# Altium schematic symbol library SamacSys.SchLib: 94 symbols
Pins are listed as number, name and electrical type; pins without a type are passive.

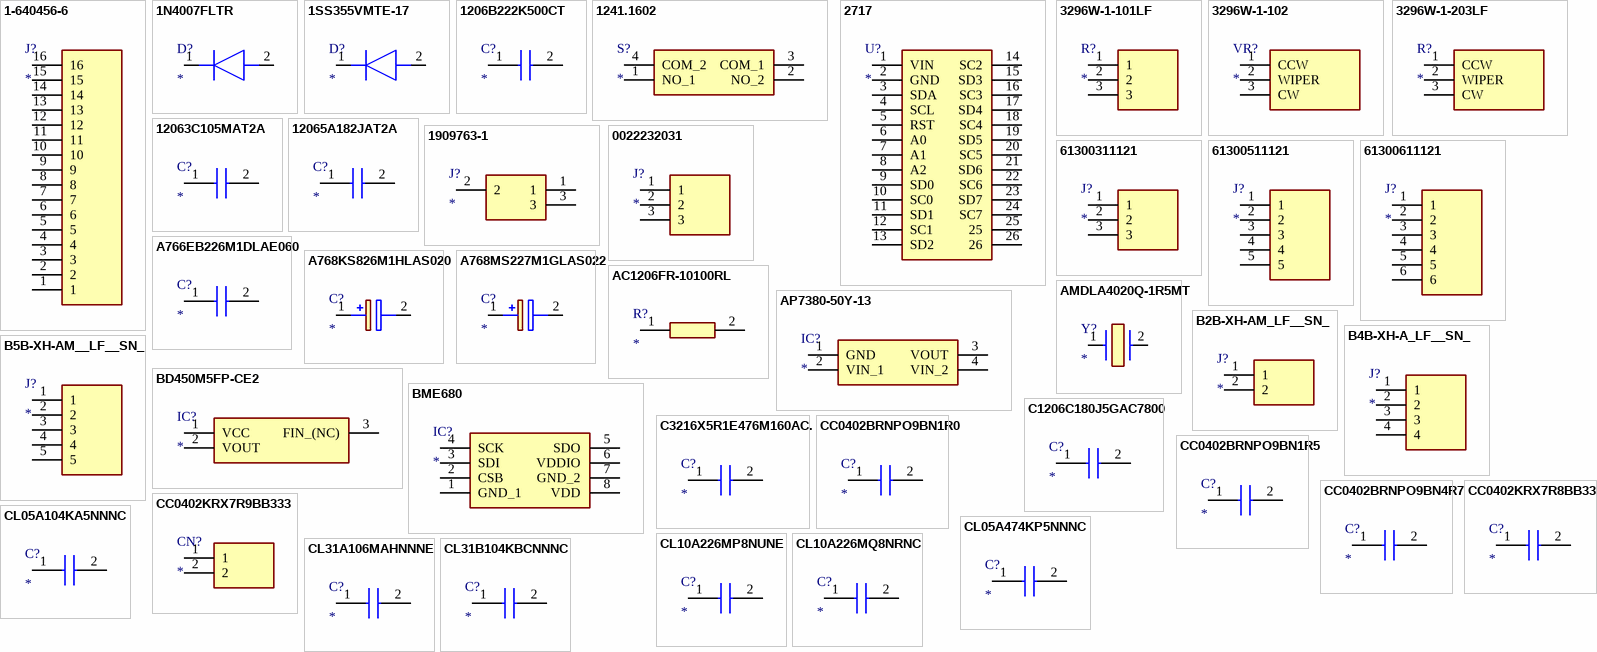
[diagram p0: symbols 1-640456-6 to CL31B104KBCNNNC]

## 1-640456-6
designator J?
Connector; Manufacturer_Name: TE Connectivity; Manufacturer_Part_Number: 1-640456-6; Datasheet Link: https://www.te.com/commerce/DocumentDelivery/DDEController?Action=srchrtrv&DocNm=640456&DocType=Customer+Drawing&DocLang=English; Height: 10.414mm; Mouser Part Number: 571-16404566; Mouser Price/Stock: https://www.mouser.co.uk/ProductDetail/TE-Connectivity-AMP/1-640456-6?qs=%2F35zJ5USjokJk73aNCEvzA%3D%3D; Arrow Part Number: 1-640456-6; Arrow Price/Stock: https://www.arrow.com/en/products/1-640456-6/te-connectivity?region=europe
footprint 16404566
pins: 1, 2, 3, 4, 5, 6, 7, 8, 9, 10, 11, 12, 13, 14, 15, 16

## 1N4007FLTR
designator D?
Diode; Manufacturer_Name: SMC; Manufacturer_Part_Number: 1N4007FLTR; Datasheet Link: http://www.smc-diodes.com/propdf/1N4001FL-1N4007FL%20N1646%20REV.A.pdf; Height: 1.4mm
footprint SODFL3718X140N
pins: 1 K, 2 A

## 1SS355VMTE-17
designator D?
Diode; Manufacturer_Name: ROHM Semiconductor; Manufacturer_Part_Number: 1SS355VMTE-17; Datasheet Link: https://datasheet.datasheetarchive.com/originals/distributors/Datasheets_SAMA/726503b2436a9ce4bc644e4966373f1b.pdf; Height: 0mm; Mouser Part Number: 755-1SS355VMTE-17; Mouser Price/Stock: https://www.mouser.co.uk/ProductDetail/ROHM-Semiconductor/1SS355VMTE-17?qs=IsRgwgmxh693733hapxfjA%3D%3D
footprint UDZVTE1722B
pins: 1 K, 2 A

## 1206B222K500CT
designator C?
Capacitor; Manufacturer_Name: Walsin Technology Corporation; Manufacturer_Part_Number: 1206B222K500CT; Datasheet Link: https://eu.mouser.com/datasheet/2/210/WTC_MLCC_General_Purpose-1534899.pdf; Height: 0.9mm
footprint CAPC3216X90N
pins: 1, 2

## 1241.1602
designator S?
Switch; Manufacturer_Name: SCHURTER; Manufacturer_Part_Number: 1241.1602; Datasheet Link: https://www.schurter.com/en/datasheet/PMS; Height: 4.55mm; Mouser Part Number: 693-1241.1602; Mouser Price/Stock: https://www.mouser.co.uk/ProductDetail/Schurter/1241.1602?qs=JHn%2F0Af%2Fl5EgRnV0HUH1SQ%3D%3D
footprint 12411602
pins: 1 NO_1, 2 NO_2, 3 COM_1, 4 COM_2

## 2717
designator U?
Undefined or Miscellaneous; Manufacturer_Name: Adafruit; Manufacturer_Part_Number: 2717; Datasheet Link: https://learn.adafruit.com/downloads/pdf/adafruit-tca9548a-1-to-8-i2c-multiplexer-breakout.pdf; Height: 1mm; Mouser Part Number: 485-2717; Mouser Price/Stock: https://www.mouser.co.uk/ProductDetail/Adafruit/2717?qs=FXKxjuMTmBk%252BXQsxVhda7A%3D%3D; Arrow Part Number: 2717; Arrow Price/Stock: https://www.arrow.com/en/products/2717/adafruit-industries?region=nac
footprint 2717
pins: 1 VIN, 2 GND, 3 SDA, 4 SCL, 5 RST, 6 A0, 7 A1, 8 A2, 9 SD0, 10 SC0, 11 SD1, 12 SC1, 13 SD2, 14 SC2, 15 SD3, 16 SC3, 17 SD4, 18 SC4, 19 SD5, 20 SC5, 21 SD6, 22 SC6, 23 SD7, 24 SC7, 25, 26

## 3296W-1-101LF
designator R?
Resistor; Manufacturer_Name: Bourns; Manufacturer_Part_Number: 3296W-1-101LF; Datasheet Link: https://www.bourns.com/pdfs/3296.pdf; Mouser Part Number: 652-3296W-1-101LF; Mouser Price/Stock: https://www.mouser.co.uk/ProductDetail/Bourns/3296W-1-101LF?qs=UcU9LKO1dwEefwKxVJG4Jw%3D%3D; Arrow Part Number: 3296W-1-101LF; Arrow Price/Stock: https://www.arrow.com/en/products/3296w-1-101lf/bourns?region=nac
footprint 3296W-1
pins: 1, 2, 3

## 3296W-1-102
designator VR?
Variable Resistor; Manufacturer_Name: Bourns; Manufacturer_Part_Number: 3296W-1-102; Datasheet Link: https://www.bourns.com/pdfs/3296.pdf; Mouser Part Number: 652-3296W-1-102; Mouser Price/Stock: https://www.mouser.co.uk/ProductDetail/Bourns/3296W-1-102?qs=fd0Ij%252BN8svybmCDBgax2Vg%3D%3D; Arrow Part Number: 3296W-1-102; Arrow Price/Stock: https://www.arrow.com/en/products/3296w-1-102/bourns?region=nac
footprint 3296W-1
pins: 1 CCW, 2 WIPER, 3 CW

## 3296W-1-203LF
designator R?
Resistor; Manufacturer_Name: Bourns; Manufacturer_Part_Number: 3296W-1-203LF; Datasheet Link: http://www.bourns.com/docs/Product-Datasheets/3296.pdf; Mouser Part Number: 652-3296W-1-203LF; Mouser Price/Stock: https://www.mouser.co.uk/ProductDetail/Bourns/3296W-1-203LF?qs=UBppDQZA%252BGQoINFzp6sGqA%3D%3D; Arrow Part Number: 3296W-1-203LF; Arrow Price/Stock: https://www.arrow.com/en/products/3296w-1-203lf/bourns?region=europe
footprint 3296W-1
pins: 1 CCW, 2 WIPER, 3 CW

## 12063C105MAT2A
designator C?
Capacitor; Manufacturer_Name: AVX; Manufacturer_Part_Number: 12063C105MAT2A; Datasheet Link: https://spicat.kyocera-avx.com/product/mlcc/chartview/12063C105MAT2A/DataSheet/X7R; Height: 1.78mm; Mouser Part Number: 581-12063C105MAT2A; Mouser Price/Stock: https://www.mouser.com/Search/Refine.aspx?Keyword=581-12063C105MAT2A; Arrow Part Number: 12063C105MAT2A; Arrow Price/Stock: https://www.arrow.com/en/products/12063c105mat2a/avx
footprint CAPC3216X178N
pins: 1, 2

## 12065A182JAT2A
designator C?
Capacitor; Manufacturer_Name: AVX; Manufacturer_Part_Number: 12065A182JAT2A; Datasheet Link: https://spicat.kyocera-avx.com/product/mlcc/chartview/12065A182JAT2A/DataSheet/NP0; Height: 1.27mm; Mouser Part Number: 581-12065A182JAT2A; Mouser Price/Stock: https://www.mouser.co.uk/ProductDetail/AVX/12065A182JAT2A?qs=euN76k2LEN%252BYks%252BdpQ6URQ%3D%3D
footprint CAPC3216X127N
pins: 1, 2

## 1909763-1
designator J?
Connector; Manufacturer_Name: TE Connectivity; Manufacturer_Part_Number: 1909763-1; Datasheet Link: http://www.te.com/commerce/DocumentDelivery/DDEController?Action=srchrtrv&DocNm=1909763&DocType=Customer+Drawing&DocLang=English; Mouser Part Number: 571-1909763-1; Mouser Price/Stock: https://www.mouser.co.uk/ProductDetail/TE-Connectivity-AMP/1909763-1?qs=zR8VgEwoOb2%252BUqFkM9%2F6jQ%3D%3D; Arrow Part Number: 1909763-1; Arrow Price/Stock: https://www.arrow.com/en/products/1909763-1/te-connectivity?region=nac
footprint 1909763-1
pins: 1, 2, 3

## 0022232031
designator J?
Connector; Manufacturer_Name: Molex; Manufacturer_Part_Number: 0022232031; Datasheet Link: https://www.molex.com/pdm_docs/sd/022232031_sd.pdf; Height: 11.05mm; Mouser Part Number: N/A; Mouser Price/Stock: https://www.mouser.co.uk/ProductDetail/Molex/0022232031?qs=PBcRNPEHKsqLjUBIVcYwpw%3D%3D; Arrow Part Number: 0022232031; Arrow Price/Stock: https://www.arrow.com/en/products/0022232031/molex?region=europe
footprint HDRV3W87P0X254_1X3_747X635X1105P
pins: 1, 2, 3

## 61300311121
designator J?
Connector; Manufacturer_Name: Wurth Elektronik; Manufacturer_Part_Number: 61300311121; Datasheet Link: http://katalog.we-online.de/em/datasheet/6130xx11121.pdf; Height: 8.69mm; Mouser Part Number: 710-61300311121; Mouser Price/Stock: https://www.mouser.co.uk/ProductDetail/Wurth-Elektronik/61300311121?qs=PhR8RmCirEYxRWFJzNKsUw%3D%3D
footprint HDRV3W64P0X254_1X3_762X254X869P
pins: 1, 2, 3

## 61300511121
designator J?
Connector; Manufacturer_Name: Wurth Elektronik; Manufacturer_Part_Number: 61300511121; Datasheet Link: http://katalog.we-online.de/em/datasheet/6130xx11121.pdf; Height: 8.54mm; Mouser Part Number: 710-61300511121; Mouser Price/Stock: https://www.mouser.co.uk/ProductDetail/Wurth-Elektronik/61300511121?qs=PhR8RmCirEZCsCRHq%252BvfRQ%3D%3D
footprint HDRV5W64P0X254_1X5_1270X254X854P
pins: 1, 2, 3, 4, 5

## 61300611121
designator J?
Connector; Manufacturer_Name: Wurth Elektronik; Manufacturer_Part_Number: 61300611121; Datasheet Link: https://componentsearchengine.com/Datasheets/2/61300611121.pdf; Height: 8.69mm; Mouser Part Number: 710-61300611121; Mouser Price/Stock: https://www.mouser.co.uk/ProductDetail/Wurth-Elektronik/61300611121?qs=t4813l51qx%2FRpdf0Kp1HlQ%3D%3D
footprint HDRV6W64P0X254_1X6_1524X254X869P
pins: 1, 2, 3, 4, 5, 6

## A766EB226M1DLAE060
designator C?
CAP ALUM POLY 22UF 20% 20V SMD; Manufacturer_Name: KEMET; Manufacturer_Part_Number: A766EB226M1DLAE060; Datasheet Link: https://content.kemet.com/datasheets/KEM_A4089_A766.pdf; Height: 6mm; Mouser Part Number: 80-A766EB226M1DLAE60; Mouser Price/Stock: https://www.mouser.co.uk/ProductDetail/KEMET/A766EB226M1DLAE060?qs=vmHwEFxEFR9cZ7fvMzQbpw%3D%3D
footprint CAPAE660X600N
pins: 1 +, 2 -

## A768KS826M1HLAS020
designator C?
Capacitor Polarised; Manufacturer_Name: KEMET; Manufacturer_Part_Number: A768KS826M1HLAS020; Datasheet Link: https://content.kemet.com/datasheets/KEM_A4088_A768.pdf; Height: 12.4mm; Mouser Part Number: 80-A768KS826M1HLAS20; Mouser Price/Stock: https://www.mouser.co.uk/ProductDetail/KEMET/A768KS826M1HLAS020?qs=yqaQSyyJnNiK6owm%2FGFRvA%3D%3D
footprint CAPAE830X1240N
pins: 1 +, 2 -

## A768MS227M1GLAS022
designator C?
Capacitor Polarised; Manufacturer_Name: KEMET; Manufacturer_Part_Number: A768MS227M1GLAS022; Datasheet Link: https://connect.kemet.com:7667/gateway/IntelliData-ComponentDocumentation/1.0/download/specsheet/A768MS227M1GLAS022; Height: 12.7mm
footprint CAPAE1030X1270N
pins: 1 +, 2 -

## AC1206FR-10100RL
designator R?
Resistor; Manufacturer_Name: KEMET; Manufacturer_Part_Number: AC1206FR-10100RL; Datasheet Link: https://www.yageo.com/upload/media/product/productsearch/datasheet/rchip/PYu-AC_51_RoHS_L_9.pdf; Height: 0.65mm; Mouser Part Number: 603-AC1206FR-10100RL; Mouser Price/Stock: https://www.mouser.com/Search/Refine.aspx?Keyword=603-AC1206FR-10100RL
footprint RESC3116X65N
pins: 1, 2

## AMDLA4020Q-1R5MT
designator Y?
Crystal or Oscillator; Manufacturer_Name: ABRACON; Manufacturer_Part_Number: AMDLA4020Q-1R5MT; Datasheet Link: https://abracon.com/datasheets/AMDLA4020Q.pdf; Height: 2mm; Mouser Part Number: 815-AMDLA4020Q-1R5MT; Mouser Price/Stock: https://www.mouser.co.uk/ProductDetail/ABRACON/AMDLA4020Q-1R5MT?qs=7MVldsJ5Uax4YduHzChsEg%3D%3D
footprint INDPM4440X200N
pins: 1, 2

## AP7380-50Y-13
designator IC?
Integrated Circuit; Manufacturer_Name: Diodes Incorporated; Manufacturer_Part_Number: AP7380-50Y-13; Datasheet Link: https://www.diodes.com/assets/Datasheets/AP7380.pdf; Height: 2mm; Mouser Part Number: 621-AP7380-50Y-13; Mouser Price/Stock: https://www.mouser.co.uk/ProductDetail/Diodes-Incorporated/AP7380-50Y-13?qs=MHUP4w%2FlnDz%2FXkm1w7ml2A%3D%3D; Arrow Part Number: AP7380-50Y-13; Arrow Price/Stock: https://www.arrow.com/en/products/ap7380-50y-13/diodes-incorporated?region=nac
footprint AZ1117CR33TRG1
pins: 1 GND, 2 VIN_1, 3 VOUT, 4 VIN_2

## B2B-XH-AM_LF__SN_
designator J?
Connector; Manufacturer_Name: JST (JAPAN SOLDERLESS TERMINALS); Manufacturer_Part_Number: B2B-XH-AM(LF)(SN); Datasheet Link: https://www.jst-mfg.com/product/pdf/eng/eXH.pdf; Height: 7mm; Arrow Part Number: B2B-XH-AM(LF)(SN); Arrow Price/Stock: https://www.arrow.com/en/products/b2b-xh-am-lf-sn/jst-manufacturing?region=europe
footprint B2BXHAMLFSN
pins: 1, 2

## B4B-XH-A_LF__SN_
designator J?
Connector; Manufacturer_Name: JST (JAPAN SOLDERLESS TERMINALS); Manufacturer_Part_Number: B4B-XH-A(LF)(SN); Datasheet Link: https://datasheet.lcsc.com/szlcsc/JST-Sales-America-B4B-XH-A-LF-SN_C144395.pdf; Height: 7mm; Arrow Part Number: B4B-XH-A(LF)(SN); Arrow Price/Stock: https://www.arrow.com/en/products/b4b-xh-a-lf-sn/jst-manufacturing?region=europe
footprint B4BXHALFSN
pins: 1, 2, 3, 4

## B5B-XH-AM__LF__SN_
designator J?
Connector; Manufacturer_Name: JST (JAPAN SOLDERLESS TERMINALS); Manufacturer_Part_Number: B5B-XH-AM (LF)(SN); Datasheet Link: http://uk.rs-online.com/web/p/products/1755317; Height: 7mm; Arrow Part Number: B5B-XH-AM (LF)(SN); Arrow Price/Stock: https://www.arrow.com/en/products/b5b-xh-am-lf-sn/jst-manufacturing
footprint B5BXHAMLFSN
pins: 1, 2, 3, 4, 5

## BD450M5FP-CE2
designator IC?
Integrated Circuit; Manufacturer_Name: ROHM Semiconductor; Manufacturer_Part_Number: BD450M5FP-CE2; Datasheet Link: https://datasheet.datasheetarchive.com/originals/distributors/DKDS-10/186386.pdf; Mouser Part Number: 755-BD450M5FP-CE2; Mouser Price/Stock: https://www.mouser.co.uk/ProductDetail/ROHM-Semiconductor/BD450M5FP-CE2?qs=zGux8KhMp6L1UcqyCxjOAw%3D%3D
footprint ROHM_TO-252-3
pins: 1 VCC, 2 VOUT, 3 FIN_(NC)

## BME680
designator IC?
Integrated Circuit; Manufacturer_Name: BOSCH; Manufacturer_Part_Number: BME680; Datasheet Link: https://www.bosch-sensortec.com/media/boschsensortec/downloads/datasheets/bst-bme680-ds001.pdf; Height: 1mm; Mouser Part Number: 262-BME680; Mouser Price/Stock: https://www.mouser.co.uk/ProductDetail/Bosch-Sensortec/BME680?qs=v271MhAjFHjo0yA%2FC4OnDQ%3D%3D; Arrow Part Number: BME680; Arrow Price/Stock: https://www.arrow.com/en/products/bme680/bosch?region=europe
footprint BME680
pins: 1 GND_1, 2 CSB, 3 SDI, 4 SCK, 5 SDO, 6 VDDIO, 7 GND_2, 8 VDD

## C1206C180J5GAC7800
designator C?
Capacitor; Manufacturer_Name: KEMET; Manufacturer_Part_Number: C1206C180J5GAC7800; Datasheet Link: https://content.kemet.com/datasheets/KEM_C1003_C0G_SMD.pdf; Height: 0.88mm; Mouser Part Number: 80-C1206C180J5GACTU; Mouser Price/Stock: https://www.mouser.co.uk/ProductDetail/KEMET/C1206C180J5GAC7800?qs=QjWTK1h0wgfDyl6B9gGzdQ%3D%3D
footprint CAPC3216X88N
pins: 1, 2

## C3216X5R1E476M160AC.
designator C?
Capacitor; Manufacturer_Name: TDK; Manufacturer_Part_Number: C3216X5R1E476M160AC.; Datasheet Link: https://media.digikey.com/pdf/Data%20Sheets/TDK%20PDFs/mlcc_commercial_general_Rev2018.pdf; Height: 1.8mm; Mouser Part Number: N/A; Mouser Price/Stock: https://www.mouser.com/Search/Refine.aspx?Keyword=N%2FA
footprint CAPC3216X180N
pins: 1, 2

## CC0402BRNPO9BN1R0
designator C?
Capacitor; Manufacturer_Name: KEMET; Manufacturer_Part_Number: CC0402BRNPO9BN1R0; Datasheet Link: https://www.mouser.tw/datasheet/2/447/UPY-GP_NP0_16V-to-50V_16-1109089.pdf; Height: 0.55mm; Mouser Part Number: 603-CC402BRNPO9BN1R0; Mouser Price/Stock: https://www.mouser.co.uk/ProductDetail/Yageo/CC0402BRNPO9BN1R0?qs=AgBp2OyFlx8W1cYb%252BvysWw%3D%3D; Arrow Part Number: CC0402BRNPO9BN1R0; Arrow Price/Stock: https://www.arrow.com/en/products/cc0402brnpo9bn1r0/yageo
footprint CAPC1005X55N
pins: 1, 2

## CC0402BRNPO9BN1R5
designator C?
Capacitor; Manufacturer_Name: KEMET; Manufacturer_Part_Number: CC0402BRNPO9BN1R5; Datasheet Link: https://4donline.ihs.com/images/VipMasterIC/IC/YAGO/YAGO-S-A0009251638/YAGO-S-A0009251638-1.pdf?hkey=6D3A4C79FDBF58556ACFDE234799DDF0; Height: 0.55mm; Mouser Part Number: 603-CC402BRNPO9BN1R5; Mouser Price/Stock: https://www.mouser.co.uk/ProductDetail/YAGEO/CC0402BRNPO9BN1R5?qs=AgBp2OyFlx%252ByBP1VEqC3GQ%3D%3D; Arrow Part Number: CC0402BRNPO9BN1R5; Arrow Price/Stock: https://www.arrow.com/en/products/cc0402brnpo9bn1r5/yageo?region=nac
footprint CAPC1005X55N
pins: 1, 2

## CC0402BRNPO9BN4R7
designator C?
Capacitor; Manufacturer_Name: KEMET; Manufacturer_Part_Number: CC0402BRNPO9BN4R7; Datasheet Link: https://4donline.ihs.com/images/VipMasterIC/IC/YAGO/YAGO-S-A0009251638/YAGO-S-A0009251638-1.pdf?hkey=6D3A4C79FDBF58556ACFDE234799DDF0; Height: 0.55mm; Mouser Part Number: 603-CC402BRNPO9BN4R7; Mouser Price/Stock: https://www.mouser.co.uk/ProductDetail/Yageo/CC0402BRNPO9BN4R7?qs=AgBp2OyFlx%2FGrCNlQaiLcg%3D%3D; Arrow Part Number: CC0402BRNPO9BN4R7; Arrow Price/Stock: https://www.arrow.com/en/products/cc0402brnpo9bn4r7/yageo
footprint CAPC1005X55N
pins: 1, 2

## CC0402KRX7R8BB333
designator C?
Capacitor; Manufacturer_Name: KEMET; Manufacturer_Part_Number: CC0402KRX7R8BB333; Datasheet Link: https://www.yageo.com/upload/media/product/productsearch/datasheet/mlcc/UPY-GPHC_X7R_6.3V-to-50V_20.pdf; Height: 0.55mm; Arrow Part Number: CC0402KRX7R8BB333; Arrow Price/Stock: https://www.arrow.com/en/products/cc0402krx7r8bb333/yageo
footprint CAPC1005X55N
pins: 1, 2

## CC0402KRX7R9BB333
designator CN?
Capacitor Network; Manufacturer_Name: KEMET; Manufacturer_Part_Number: CC0402KRX7R9BB333; Datasheet Link: https://www.yageo.com/upload/media/product/productsearch/datasheet/mlcc/UPY-GPHC_X7R_6.3V-to-50V_20.pdf; Height: 0.55mm; Mouser Part Number: 603-CC0402KRX79BB333; Mouser Price/Stock: https://www.mouser.co.uk/ProductDetail/Yageo/CC0402KRX7R9BB333?qs=mzRxyRlhVdu7dEf0u4BWDQ%3D%3D
footprint CAPC1005X55N
pins: 1, 2

## CL05A104KA5NNNC
designator C?
CAP CER 0.1UF 25V X5R 0402; Manufacturer_Name: SAMSUNG; Manufacturer_Part_Number: CL05A104KA5NNNC; Datasheet Link: https://datasheet.datasheetarchive.com/originals/distributors/Datasheets-DGA10/2409293.pdf; Height: 0.55mm; Mouser Part Number: 187-CL05A104KA5NNNC; Mouser Price/Stock: https://www.mouser.co.uk/ProductDetail/Samsung-Electro-Mechanics/CL05A104KA5NNNC?qs=X6jEic%2FHinDlkqz9npJeOg%3D%3D; Arrow Part Number: CL05A104KA5NNNC; Arrow Price/Stock: https://www.arrow.com/en/products/cl05a104ka5nnnc/samsung-electro-mechanics?region=europe
footprint CAPC1005X55N
pins: 1, 2

## CL05A474KP5NNNC
designator C?
Capacitor; Manufacturer_Name: SAMSUNG; Manufacturer_Part_Number: CL05A474KP5NNNC; Datasheet Link: https://www.arrow.com/en/products/cl05a474kp5nnnc/samsung-electro-mechanics; Height: 0.55mm; Mouser Part Number: 187-CL05A474KP5NNNC; Mouser Price/Stock: https://www.mouser.co.uk/ProductDetail/Samsung-Electro-Mechanics/CL05A474KP5NNNC?qs=j1G0pkQ9NdAe6TOwvcaxIw%3D%3D; Arrow Part Number: CL05A474KP5NNNC; Arrow Price/Stock: https://www.arrow.com/en/products/cl05a474kp5nnnc/samsung-electro-mechanics?region=nac
footprint CAPC1005X55N
pins: 1, 2

## CL10A226MP8NUNE
designator C?
Capacitor; Manufacturer_Name: SAMSUNG; Manufacturer_Part_Number: CL10A226MP8NUNE; Datasheet Link: https://datasheet.datasheetarchive.com/originals/distributors/Datasheets-DGA10/2407063.pdf; Height: 1.05mm; Mouser Part Number: 187-CL10A226MP8NUNE; Mouser Price/Stock: https://www.mouser.co.uk/ProductDetail/Samsung-Electro-Mechanics/CL10A226MP8NUNE?qs=gRKWieUq2Hb5O0PTfRKzDQ%3D%3D; Arrow Part Number: CL10A226MP8NUNE; Arrow Price/Stock: https://www.arrow.com/en/products/cl10a226mp8nune/samsung-electro-mechanics?region=nac
footprint CAPC1608X105N
pins: 1, 2

## CL10A226MQ8NRNC
designator C?
Capacitor; Manufacturer_Name: SAMSUNG; Manufacturer_Part_Number: CL10A226MQ8NRNC; Datasheet Link: https://datasheet.datasheetarchive.com/originals/distributors/Datasheets-DGA10/2405992.pdf; Height: 1mm; Mouser Part Number: 187-CL10A226MQ8NRNC; Mouser Price/Stock: https://www.mouser.co.uk/ProductDetail/Samsung-Electro-Mechanics/CL10A226MQ8NRNC?qs=X6jEic%2FHinDGbmbtAN0PnA%3D%3D; Arrow Part Number: CL10A226MQ8NRNC; Arrow Price/Stock: https://www.arrow.com/en/products/cl10a226mq8nrnc/samsung-electro-mechanics?region=nac
footprint CAPC1608X100N
pins: 1, 2

## CL31A106MAHNNNE
designator C?
CAP CER 10UF 25V X5R 1206; Manufacturer_Name: SAMSUNG; Manufacturer_Part_Number: CL31A106MAHNNNE; Datasheet Link: https://www.arrow.com/en/products/cl31a106mahnnne/samsung-electro-mechanics; Height: 1.8mm; Mouser Part Number: 187-CL31A106MAHNNNE; Mouser Price/Stock: https://www.mouser.co.uk/ProductDetail/Samsung-Electro-Mechanics/CL31A106MAHNNNE?qs=9y2YoPkPyvYkOWbcUKSn%252BQ%3D%3D; Arrow Part Number: CL31A106MAHNNNE; Arrow Price/Stock: https://www.arrow.com/en/products/cl31a106mahnnne/samsung-electro-mechanics
footprint CAPC3216X180N
pins: 1, 2

## CL31B104KBCNNNC
designator C?
CAP CER 0.1UF 50V X7R 1206; Manufacturer_Name: SAMSUNG; Manufacturer_Part_Number: CL31B104KBCNNNC; Datasheet Link: https://datasheet.datasheetarchive.com/originals/distributors/Datasheets_SAMA/0fdb6a11e020a7299f4d0713dd2bd7ee.pdf; Height: 1mm; Mouser Part Number: 187-CL31B104KBCNNNC; Mouser Price/Stock: https://www.mouser.co.uk/ProductDetail/Samsung-Electro-Mechanics/CL31B104KBCNNNC?qs=349EhDEZ59oHABbyGq1iKA%3D%3D; Arrow Part Number: CL31B104KBCNNNC; Arrow Price/Stock: https://www.arrow.com/en/products/cl31b104kbcnnnc/samsung-electro-mechanics?region=nac
footprint CAPC3216X100N
pins: 1, 2

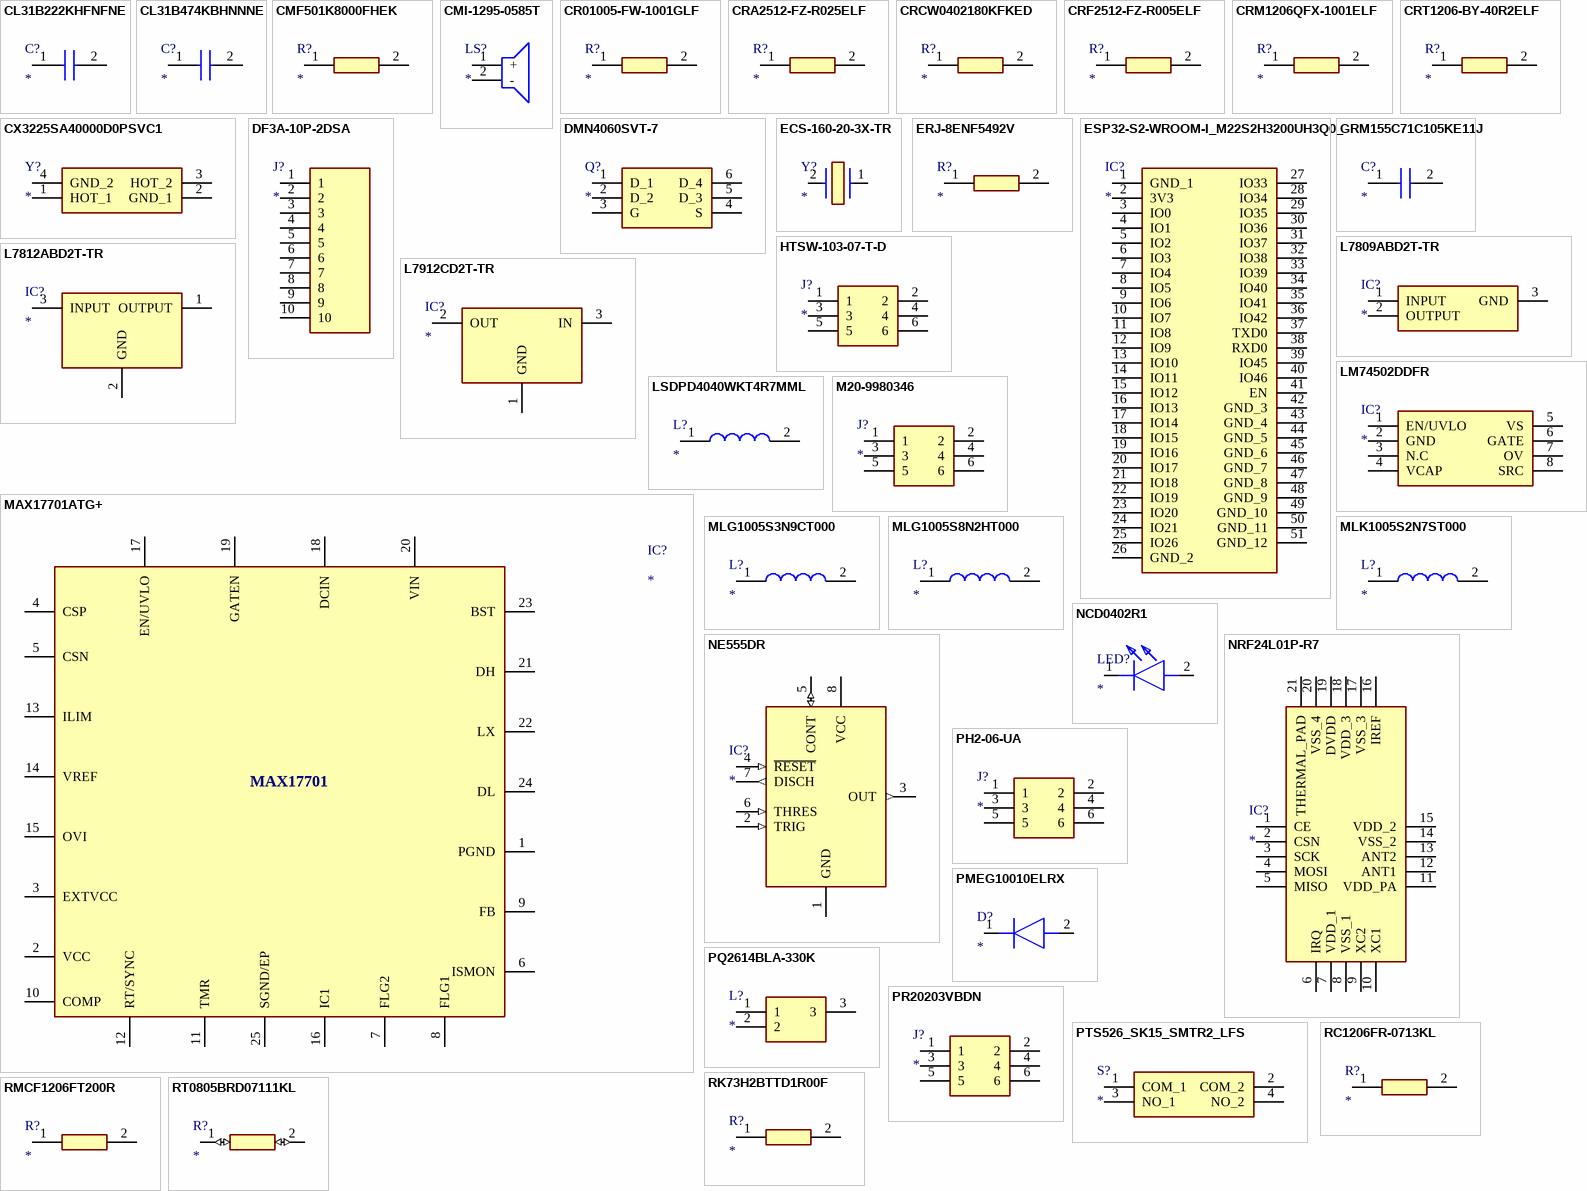
[diagram p1: symbols CL31B222KHFNFNE to RT0805BRD07111KL]

## CL31B222KHFNFNE
designator C?
Capacitor; Manufacturer_Name: SAMSUNG; Manufacturer_Part_Number: CL31B222KHFNFNE; Datasheet Link: https://datasheet.datasheetarchive.com/originals/dk/DKDS-19/375238.pdf; Height: 1.4mm; Mouser Part Number: 187-CL31B222KHFNFNE; Mouser Price/Stock: https://www.mouser.co.uk/ProductDetail/Samsung-Electro-Mechanics/CL31B222KHFNFNE?qs=%252B6g0mu59x7JGje2fEESuVw%3D%3D
footprint CAPC3216X140N
pins: 1, 2

## CL31B474KBHNNNE
designator C?
Capacitor; Manufacturer_Name: SAMSUNG; Manufacturer_Part_Number: CL31B474KBHNNNE; Datasheet Link: https://datasheet.datasheetarchive.com/originals/distributors/Datasheets_SAMA/624d57f8861bc75ef1b47830d520ec0a.pdf; Height: 1.8mm; Mouser Part Number: 187-CL31B474KBHNNNE; Mouser Price/Stock: https://www.mouser.co.uk/ProductDetail/Samsung-Electro-Mechanics/CL31B474KBHNNNE?qs=349EhDEZ59olbv7Lkudghw%3D%3D; Arrow Part Number: CL31B474KBHNNNE; Arrow Price/Stock: https://www.arrow.com/en/products/cl31b474kbhnnne/samsung-electro-mechanics?region=nac
footprint CAPC3216X180N
pins: 1, 2

## CMF501K8000FHEK
designator R?
Resistor; Manufacturer_Name: Vishay; Manufacturer_Part_Number: CMF501K8000FHEK; Datasheet Link: http://www.vishay.com/docs/31018/cmfind.pdf; Mouser Part Number: 71-CMF501K8000FHEK; Mouser Price/Stock: https://www.mouser.co.uk/ProductDetail/Vishay-Dale/CMF501K8000FHEK?qs=qMQZBCFbmjtBtlx6l1KQlg%3D%3D; Arrow Part Number: CMF501K8000FHEK; Arrow Price/Stock: https://www.arrow.com/en/products/cmf501k8000fhek/vishay
footprint RESAD1041W46L381D165
pins: 1, 2

## CMI-1295-0585T
designator LS?
Loudspeaker or Buzzer; Manufacturer_Name: CUI Devices; Manufacturer_Part_Number: CMI-1295-0585T; Datasheet Link: https://www.cuidevices.com/product/resource/pdf/cmi-1295-0585t.pdf; Height: 9.7mm; Mouser Part Number: 490-CMI-1295-0585T; Mouser Price/Stock: https://www.mouser.co.uk/ProductDetail/CUI-Devices/CMI-1295-0585T?qs=P1JMDcb91o6b8IYPugSq6A%3D%3D; Arrow Part Number: CMI-1295-0585T; Arrow Price/Stock: https://www.arrow.com/en/products/cmi-1295-0585t/cui-devices?region=nac
footprint CMI12950585T
pins: 1 +, 2 -

## CR01005-FW-1001GLF
designator R?
Resistor; Manufacturer_Name: Bourns; Manufacturer_Part_Number: CR01005-FW-1001GLF; Datasheet Link: https://www.bourns.com/docs/product-datasheets/CRxxxxx.pdf; Height: 0.15mm; Mouser Part Number: 576-CR01005-W1001GL; Mouser Price/Stock: https://www.mouser.co.uk/ProductDetail/Bourns/CR01005-FW-1001GLF?qs=vmHwEFxEFR%252BLRqrp0ZxAlg%3D%3D
footprint CR01005FW1001GLF
pins: 1, 2

## CRA2512-FZ-R025ELF
designator R?
Resistor; Manufacturer_Name: Bourns; Manufacturer_Part_Number: CRA2512-FZ-R025ELF; Datasheet Link: https://datasheet.datasheetarchive.com/originals/distributors/SFDatasheet-7/sf-000140177.pdf; Height: 0.9mm; Mouser Part Number: 652-CRA2512FZR025ELF; Mouser Price/Stock: https://www.mouser.co.uk/ProductDetail/Bourns/CRA2512-FZ-R025ELF?qs=GqIuCp6zjbWCbaqRzHZejQ%3D%3D; Arrow Part Number: CRA2512-FZ-R025ELF; Arrow Price/Stock: https://www.arrow.com/en/products/cra2512-fz-r025elf/bourns?region=nac
footprint RESC6434X90N
pins: 1, 2

## CRCW0402180KFKED
designator R?
Resistor; Manufacturer_Name: Vishay; Manufacturer_Part_Number: CRCW0402180KFKED; Description: Vishay CRCW Series Thick Film Surface Mount Resistor 0402 Case 180k +/-1% 0.063W +/-100ppm/C; Datasheet Link: http://www.vishay.com/docs/20035/dcrcwe3.pdf; Height: 0.4mm; Mouser Part Number: 71-CRCW0402180KFKED; Mouser Price/Stock: https://www.mouser.co.uk/ProductDetail/Vishay-Dale/CRCW0402180KFKED?qs=QPqDnsKvzKeCvZvZQylUHg%3D%3D; Arrow Part Number: CRCW0402180KFKED; Arrow Price/Stock: https://www.arrow.com/en/products/crcw0402180kfked/vishay
footprint RESC1005X40N
pins: 1, 2

## CRF2512-FZ-R005ELF
designator R?
Resistor; Manufacturer_Name: Bourns; Manufacturer_Part_Number: CRF2512-FZ-R005ELF; Datasheet Link: https://www.arrow.com/en/products/crf2512-fz-r005elf/bourns; Height: 0.8mm; Mouser Part Number: 652-CRF2512FZR005ELF; Mouser Price/Stock: https://www.mouser.co.uk/ProductDetail/Bourns/CRF2512-FZ-R005ELF?qs=iHX4uCgIbgMqZUuYK4Zqgg%3D%3D; Arrow Part Number: CRF2512-FZ-R005ELF; Arrow Price/Stock: https://www.arrow.com/en/products/crf2512-fz-r005elf/bourns?region=nac
footprint RESC6432X80N
pins: 1, 2

## CRM1206QFX-1001ELF
designator R?
Resistor; Manufacturer_Name: Bourns; Manufacturer_Part_Number: CRM1206QFX-1001ELF; Datasheet Link: http://www.bourns.com/docs/Product-Datasheets/CRM-Q.pdf; Height: 0.65mm; Mouser Part Number: 652-CRM1206QFX-1001E; Mouser Price/Stock: https://www.mouser.co.uk/ProductDetail/Bourns/CRM1206QFX-1001ELF?qs=8Wlm6%252BaMh8Tjg7l1Rp9ylQ%3D%3D; Arrow Part Number: CRM1206QFX-1001ELF; Arrow Price/Stock: https://www.arrow.com/en/products/crm1206qfx-1001elf/bourns?region=nac
footprint RESC3116X65N
pins: 1, 2

## CRT1206-BY-40R2ELF
designator R?
Resistor; Manufacturer_Name: Bourns; Manufacturer_Part_Number: CRT1206-BY-40R2ELF; Datasheet Link: http://www.bourns.com/docs/Product-Datasheets/crt-as.pdf; Height: 0.65mm; Mouser Part Number: 652-CRT1206BY40R2ELF; Mouser Price/Stock: https://www.mouser.co.uk/ProductDetail/Bourns/CRT1206-BY-40R2ELF?qs=oyIm%2F3giSj7POPsE94YyZg%3D%3D
footprint RESC3016X65N
pins: 1, 2

## CX3225SA40000D0PSVC1
designator Y?
Crystal or Oscillator; Manufacturer_Name: KYOCERA; Manufacturer_Part_Number: CX3225SA40000D0PSVC1; Datasheet Link: https://www.mouser.cn/datasheet/2/40/Kyocera_03282023_Mouser_CX3225SA40000D0PSVC1_UKY1C-3134464.pdf; Height: 0.8mm; Mouser Part Number: 581-CX3225SA40DPSVC1; Mouser Price/Stock: https://www.mouser.co.uk/ProductDetail/KYOCERA-AVX/CX3225SA40000D0PSVC1?qs=9vOqFld9vZW3kz2Es9bwkA%3D%3D
footprint CX3225SA40000D0PSVC1
pins: 1 HOT_1, 2 GND_1, 3 HOT_2, 4 GND_2

## DF3A-10P-2DSA
designator J?
Connector; Manufacturer_Name: Hirose; Manufacturer_Part_Number: DF3A-10P-2DSA; Datasheet Link: https://www.hirose.com/product/document?clcode=CL0543-0173-8-00&productname=DF3A-10P-2DSA&series=DF3&documenttype=2DDrawing&lang=en&documentid=0000994635; Height: 5.3mm; Mouser Part Number: 798-DF3A-10P-2DSA; Mouser Price/Stock: https://www.mouser.co.uk/ProductDetail/Hirose-Connector/DF3A-10P-2DSA?qs=Ux3WWAnHpjDBeRbFrvWwtQ%3D%3D
footprint SHDR10W60P0X200_1X10_2200X500X530P
pins: 1, 2, 3, 4, 5, 6, 7, 8, 9, 10

## DMN4060SVT-7
designator Q?
MOSFET (N-Channel); Manufacturer_Name: Diodes Inc.; Manufacturer_Part_Number: DMN4060SVT-7; Datasheet Link: https://datasheet.lcsc.com/szlcsc/Diodes-Incorporated-DMN4060SVT-7_C155314.pdf; Height: 1mm; Mouser Part Number: 621-DMN4060SVT-7; Mouser Price/Stock: https://www.mouser.co.uk/ProductDetail/Diodes-Incorporated/DMN4060SVT-7?qs=gfe7vQ8txpVnyiyrFKlC5Q%3D%3D; Arrow Part Number: DMN4060SVT-7; Arrow Price/Stock: https://www.arrow.com/en/products/dmn4060svt-7/diodes-incorporated?region=asia
footprint SOT95P280X100-6N
pins: 1 D_1, 2 D_2, 3 G, 4 S, 5 D_3, 6 D_4

## ECS-160-20-3X-TR
designator Y?
Crystal or Oscillator; Manufacturer_Name: ECS; Manufacturer_Part_Number: ECS-160-20-3X-TR; Datasheet Link: https://www.arrow.com/en/products/ecs-160-20-3x-tr/ecs-international; Height: 2.3mm; Mouser Part Number: 520-160-20-3XT; Mouser Price/Stock: https://www.mouser.co.uk/ProductDetail/ECS/ECS-160-20-3X-TR?qs=7Z%2FjUg96RbU1ElbRFXn8Rw%3D%3D; Arrow Part Number: ECS-160-20-3X-TR; Arrow Price/Stock: https://www.arrow.com/en/products/ecs-160-20-3x-tr/ecs-international?region=nac
footprint ECS160203XTR
pins: 1 X1, 2 X2

## ERJ-8ENF5492V
designator R?
Resistor; Manufacturer_Name: Panasonic; Manufacturer_Part_Number: ERJ-8ENF5492V; Datasheet Link: https://industrial.panasonic.com/cdbs/www-data/pdf/RDA0000/AOA0000C86.pdf; Height: 0.7mm; Mouser Part Number: 667-ERJ-8ENF5492V; Mouser Price/Stock: https://www.mouser.com/Search/Refine.aspx?Keyword=667-ERJ-8ENF5492V
footprint ERJ8ENF1000V
pins: 1, 2

## ESP32-S2-WROOM-I_M22S2H3200UH3Q0_
designator IC?
Integrated Circuit; Manufacturer_Name: Espressif Systems; Manufacturer_Part_Number: ESP32-S2-WROOM-I(M22S2H3200UH3Q0); Datasheet Link: https://www.espressif.com/sites/default/files/documentation/esp32-s2-wroom_esp32-s2-wroom-i_datasheet_en.pdf; Height: 3.45mm; Mouser Part Number: 356-ESP32S2WRMI320UH; Mouser Price/Stock: https://www.mouser.co.uk/ProductDetail/Espressif-Systems/ESP32-S2-WROOM-IM22S2H3200UH3Q0?qs=vHuUswq2%252BswK%2FNdFP9puyg%3D%3D
footprint ESP32S2WROOMIM22S2H3200UH3Q0
pins: 1 GND_1, 2 3V3, 3 IO0, 4 IO1, 5 IO2, 6 IO3, 7 IO4, 8 IO5, 9 IO6, 10 IO7, 11 IO8, 12 IO9, 13 IO10, 14 IO11, 15 IO12, 16 IO13, 17 IO14, 18 IO15, 19 IO16, 20 IO17, 21 IO18, 22 IO19, 23 IO20, 24 IO21, 25 IO26, 26 GND_2, 27 IO33, 28 IO34, 29 IO35, 30 IO36, 31 IO37, 32 IO38, 33 IO39, 34 IO40, 35 IO41, 36 IO42, 37 TXD0, 38 RXD0, 39 IO45, 40 IO46, 41 EN, 42 GND_3, 43 GND_4, 44 GND_5, 45 GND_6, 46 GND_7, 47 GND_8, 48 GND_9, 49 GND_10, 50 GND_11, 51 GND_12

## GRM155C71C105KE11J
designator C?
Capacitor; Manufacturer_Name: Murata Electronics; Manufacturer_Part_Number: GRM155C71C105KE11J; Datasheet Link: http://www.murata.com/~/media/webrenewal/support/library/catalog/products/capacitor/mlcc/c02e.pdf; Height: 0.55mm; Mouser Part Number: 81-GRM155C71C105KE11; Mouser Price/Stock: https://www.mouser.co.uk/ProductDetail/Murata-Electronics/GRM155C71C105KE11J?qs=pUKx8fyJudDfEc2RwhPUhw%3D%3D
footprint CAPC1005X55N
pins: 1, 2

## HTSW-103-07-T-D
designator J?
Connector; Manufacturer_Name: SAMTEC; Manufacturer_Part_Number: HTSW-103-07-T-D; Datasheet Link: https://componentsearchengine.com/Datasheets/2/HTSW-103-07-T-D.pdf; Height: 8.38mm; Mouser Part Number: 200-HTSW10307TD; Mouser Price/Stock: https://www.mouser.co.uk/ProductDetail/Samtec/HTSW-103-07-T-D?qs=0lQeLiL1qyZ%2FnaT5YK%2Fi1w%3D%3D; Arrow Part Number: HTSW-103-07-T-D; Arrow Price/Stock: https://www.arrow.com/en/products/htsw-103-07-t-d/samtec?region=nac
footprint HDRV6W64P254_2X3_762X502X838P
pins: 1, 2, 3, 4, 5, 6

## L7809ABD2T-TR
designator IC?
Integrated Circuit; Manufacturer_Name: STMicroelectronics; Manufacturer_Part_Number: L7809ABD2T-TR; Datasheet Link: https://www.st.com/resource/en/datasheet/l78.pdf; Mouser Part Number: 511-L7809ABD2T-TR; Mouser Price/Stock: https://www.mouser.co.uk/ProductDetail/STMicroelectronics/L7809ABD2T-TR?qs=za26I2nnnxk5FkRchhHExw%3D%3D; Arrow Part Number: L7809ABD2T-TR; Arrow Price/Stock: https://www.arrow.com/en/products/l7809abd2t-tr/stmicroelectronics?region=nac
footprint ST_D2PAK
pins: 1 INPUT, 2 OUTPUT, 3 GND

## L7812ABD2T-TR
designator IC?
Integrated Circuit; Manufacturer_Name: STMicroelectronics; Manufacturer_Part_Number: L7812ABD2T-TR; Datasheet Link: https://componentsearchengine.com/Datasheets/1/L7812ABD2T-TR.pdf; Height: 4.7mm; Mouser Part Number: 511-L7812ABD2T-TR; Mouser Price/Stock: https://www.mouser.co.uk/ProductDetail/STMicroelectronics/L7812ABD2T-TR?qs=llfGyK1OjE3hWetai%252BQcKg%3D%3D; Arrow Part Number: L7812ABD2T-TR; Arrow Price/Stock: https://www.arrow.com/en/products/l7812abd2t-tr/stmicroelectronics?region=europe
footprint L7812ABD2TTR
pins: 1 OUTPUT, 2 GND, 3 INPUT

## L7912CD2T-TR
designator IC?
Integrated Circuit; Manufacturer_Name: STMicroelectronics; Manufacturer_Part_Number: L7912CD2T-TR; Datasheet Link: http://www.st.com/web/en/resource/technical/document/datasheet/CD00000450.pdf; Height: 4.6mm; Mouser Part Number: 511-L7912CD2T-TR; Mouser Price/Stock: https://www.mouser.co.uk/ProductDetail/STMicroelectronics/L7912CD2T-TR?qs=3sbPgdekz232r2AmOaAD%252Bg%3D%3D; Arrow Part Number: L7912CD2T-TR; Arrow Price/Stock: https://www.arrow.com/en/products/l7912cd2t-tr/stmicroelectronics?region=nac
footprint L7905CD2TTR
pins: 1 GND, 2 OUT, 3 IN

## LM74502DDFR
designator IC?
Integrated Circuit; Manufacturer_Name: Texas Instruments; Manufacturer_Part_Number: LM74502DDFR; Datasheet Link: https://www.arrow.com/en/products/lm74502ddfr/texas-instruments?region=nac; Height: 1.1mm; Mouser Part Number: 595-LM74502DDFR; Mouser Price/Stock: https://www.mouser.co.uk/ProductDetail/Texas-Instruments/LM74502DDFR?qs=doiCPypUmgHnIUX9P1FS2A%3D%3D; Arrow Part Number: LM74502DDFR; Arrow Price/Stock: https://www.arrow.com/en/products/lm74502ddfr/texas-instruments?region=nac
footprint SOT65P280X110-8N
pins: 1 EN/UVLO, 2 GND, 3 N.C, 4 VCAP, 5 VS, 6 GATE, 7 OV, 8 SRC

## LSDPD4040WKT4R7MML
designator L?
Inductor; Manufacturer_Name: TAIYO YUDEN; Manufacturer_Part_Number: LSDPD4040WKT4R7MML; Datasheet Link: https://media.digikey.com/pdf/Data%20Sheets/Taiyo%20Yuden%20PDFs%20URL%20links/LSDPD4040WKT4R7MM_SS.pdf; Height: 2mm; Mouser Part Number: 963-LSDPD4040WKT4R7M; Mouser Price/Stock: https://www.mouser.co.uk/ProductDetail/TAIYO-YUDEN/LSDPD4040WKT4R7MML?qs=Jm2GQyTW%2FbhVoj%252BXZeW%2FKw%3D%3D
footprint LSDPD4040WKT4R7MML
pins: 1, 2

## M20-9980346
designator J?
Connector; Manufacturer_Name: Harwin; Manufacturer_Part_Number: M20-9980346; Datasheet Link: https://cdn.harwin.com/pdfs/M20-998.pdf; Height: 8.68mm; Mouser Part Number: 855-M20-9980346; Mouser Price/Stock: https://www.mouser.co.uk/ProductDetail/Harwin/M20-9980346?qs=%252Bk6%2F5FB6qrmHk2P20oz3FA%3D%3D
footprint HDRV6W64P254_2X3_762X508X868P
pins: 1, 2, 3, 4, 5, 6

## MAX17701ATG+
designator IC?
Integrated Circuit; Manufacturer_Name: Analog Devices; Manufacturer_Part_Number: MAX17701ATG+; Datasheet Link: https://pdfserv.maximintegrated.com/en/ds/MAX17701.pdf; Height: 0.8mm; Mouser Part Number: 700-MAX17701ATG+; Mouser Price/Stock: https://www.mouser.co.uk/ProductDetail/Maxim-Integrated/MAX17701ATG%2b?qs=W%2FMpXkg%252BdQ4lZ0yRy8rVtg%3D%3D; Arrow Part Number: MAX17701ATG+; Arrow Price/Stock: https://www.arrow.com/en/products/max17701atg/maxim-integrated?region=nac
footprint QFN50P400X400X80-25N-D
pins: 1 PGND, 2 VCC, 3 EXTVCC, 4 CSP, 5 CSN, 6 ISMON, 7 FLG2, 8 FLG1, 9 FB, 10 COMP, 11 TMR, 12 RT/SYNC, 13 ILIM, 14 VREF, 15 OVI, 16 IC1, 17 EN/UVLO, 18 DCIN, 19 GATEN, 20 VIN, 21 DH, 22 LX, 23 BST, 24 DL, 25 SGND/EP
text: MAX17701

## MLG1005S3N9CT000
designator L?
Inductor; Manufacturer_Name: TDK; Manufacturer_Part_Number: MLG1005S3N9CT000; Datasheet Link: https://product.tdk.com/system/files/dam/doc/product/inductor/inductor/smd/catalog/inductor_commercial_high-frequency_mlg1005s_en.pdf; Mouser Part Number: 810-MLG1005S3N9CT000; Mouser Price/Stock: https://www.mouser.com/Search/Refine.aspx?Keyword=810-MLG1005S3N9CT000; Arrow Part Number: MLG1005S3N9CT000; Arrow Price/Stock: https://www.arrow.com/en/products/mlg1005s3n9ct000/tdk
footprint MLG1005
pins: 1, 2

## MLG1005S8N2HT000
designator L?
Inductor; Manufacturer_Name: TDK; Manufacturer_Part_Number: MLG1005S8N2HT000; Datasheet Link: https://product.tdk.com/system/files/dam/doc/product/inductor/inductor/smd/catalog/inductor_commercial_high-frequency_mlg1005s_en.pdf; Mouser Part Number: 810-MLG1005S8N2HT000; Mouser Price/Stock: https://www.mouser.co.uk/ProductDetail/TDK/MLG1005S8N2HT000?qs=u4%252BEJ9urDARz22ok74sGtw%3D%3D
footprint MLG1005
pins: 1, 2

## MLK1005S2N7ST000
designator L?
Inductor; Manufacturer_Name: TDK; Manufacturer_Part_Number: MLK1005S2N7ST000; Datasheet Link: https://product.tdk.com/system/files/dam/doc/product/inductor/inductor/smd/catalog/inductor_commercial_high-frequency_mlk1005_en.pdf; Height: 0.6mm; Mouser Part Number: 810-MLK1005S2N7ST000; Mouser Price/Stock: https://www.mouser.com/Search/Refine.aspx?Keyword=810-MLK1005S2N7ST000; Arrow Part Number: MLK1005S2N7ST000; Arrow Price/Stock: https://www.arrow.com/en/products/mlk1005s2n7st000/tdk?region=nac
footprint INDC1005X60N
pins: 1, 2

## NCD0402R1
designator LED?
LED; Manufacturer_Name: Foshan NationStar Optoelectronics; Manufacturer_Part_Number: NCD0402R1; Datasheet Link: https://datasheet.lcsc.com/lcsc/2008201033_Foshan-NationStar-Optoelectronics-NCD0402R1_C130719.pdf; Height: 0.45mm
footprint NCD0402R1
pins: 1 K, 2 A

## NE555DR
designator IC?
Integrated Circuit; Manufacturer_Name: Texas Instruments; Manufacturer_Part_Number: NE555DR; Datasheet Link: http://www.ti.com/lit/ds/symlink/ne555.pdf; Height: 1.75mm; Mouser Part Number: 595-NE555DR; Mouser Price/Stock: https://www.mouser.com/Search/Refine.aspx?Keyword=595-NE555DR; RS Part Number: 1218414; RS Price/Stock: http://uk.rs-online.com/web/p/products/1218414
footprint SOIC127P600X175-8N
pins: 1 GND (power), 2 TRIG (in), 3 OUT (out), 4 ~{RESET} (in), 5 CONT (io), 6 THRES (in), 7 DISCH (out), 8 VCC (power)

## NRF24L01P-R7
designator IC?
Integrated Circuit; Manufacturer_Name: Nordic Semiconductor; Manufacturer_Part_Number: NRF24L01P-R7; Datasheet Link: https://www.mouser.com/ds/2/297/nRF24L01P-1187709.pdf; Height: 0.95mm; Mouser Part Number: 949-NRF24L01P-R7; Mouser Price/Stock: https://www.mouser.co.uk/ProductDetail/Nordic-Semiconductor/nRF24L01P-R7?qs=yd0qOhnSiDe8zMRXiZkGiQ%3D%3D; Arrow Part Number: NRF24L01P-R7; Arrow Price/Stock: https://www.arrow.com/en/products/nrf24l01p-r7/nordic-semiconductor?region=nac
footprint QFN50P400X400X95-21N-D
pins: 1 CE, 2 CSN, 3 SCK, 4 MOSI, 5 MISO, 6 IRQ, 7 VDD_1, 8 VSS_1, 9 XC2, 10 XC1, 11 VDD_PA, 12 ANT1, 13 ANT2, 14 VSS_2, 15 VDD_2, 16 IREF, 17 VSS_3, 18 VDD_3, 19 DVDD, 20 VSS_4, 21 THERMAL_PAD

## PH2-06-UA
designator J?
Connector; Manufacturer_Name: Adam Tech; Manufacturer_Part_Number: PH2-06-UA; Datasheet Link: https://datasheet.datasheetarchive.com/originals/distributors/Datasheets_SAMA/c63e3fe101e7b6e3957e7ad4a1a98367.pdf; Height: 9.008mm; Arrow Part Number: PH2-06-UA; Arrow Price/Stock: https://www.arrow.com/en/products/ph2-06-ua/adam-tech?region=nac
footprint HDRV6W64P254_2X3_762X500X901P
pins: 1, 2, 3, 4, 5, 6

## PMEG10010ELRX
designator D?
Diode; Manufacturer_Name: Nexperia; Manufacturer_Part_Number: PMEG10010ELRX; Datasheet Link: https://assets.nexperia.com/documents/data-sheet/PMEG10010ELR.pdf; Height: 1.1mm; Mouser Part Number: 771-PMEG10010ELRX; Mouser Price/Stock: https://www.mouser.co.uk/ProductDetail/Nexperia/PMEG10010ELRX?qs=bel5lzaZNxTBP7lsf64PhA%3D%3D; Arrow Part Number: PMEG10010ELRX; Arrow Price/Stock: https://www.arrow.com/en/products/pmeg10010elrx/nexperia?region=nac
footprint SODFL3517X110N
pins: 1 K, 2 A

## PQ2614BLA-330K
designator L?
Inductor; Manufacturer_Name: Bourns; Manufacturer_Part_Number: PQ2614BLA-330K; Datasheet Link: https://www.arrow.com/en/products/pq2614bla-330k/bourns; Height: 16mm; Mouser Part Number: 652-PQ2614BLA-330K; Mouser Price/Stock: https://www.mouser.co.uk/ProductDetail/Bourns/PQ2614BLA-330K?qs=1mbolxNpo8dUu4bPPQBVpw%3D%3D; Arrow Part Number: PQ2614BLA-330K; Arrow Price/Stock: https://www.arrow.com/en/products/pq2614bla-330k/bourns?region=nac
footprint PQ2614BLA330K
pins: 1, 2, 3

## PR20203VBDN
designator J?
Connector; Manufacturer_Name: Metz Connect; Manufacturer_Part_Number: PR20203VBDN; Datasheet Link: https://media.metz-connect.com/files/171/Data_sheet_PR202XXVBDN.PDF; Height: 8.6mm
footprint HDRV6W64P254_2X3_762X500X860P
pins: 1, 2, 3, 4, 5, 6

## PTS526_SK15_SMTR2_LFS
designator S?
Switch; Manufacturer_Name: C & K COMPONENTS; Manufacturer_Part_Number: PTS526 SK15 SMTR2 LFS; Datasheet Link: https://www.ckswitches.com/media/2780/pts526.pdf; Height: 1.65mm; Mouser Part Number: 611-PTS526SK15SMR2L; Mouser Price/Stock: https://www.mouser.co.uk/ProductDetail/CK/PTS526-SK15-SMTR2-LFS?qs=UXgszm6BlbF5Ezp94JAQtw%3D%3D; Arrow Part Number: PTS526 SK15 SMTR2 LFS; Arrow Price/Stock: https://www.arrow.com/en/products/pts526-sk15-smtr2-lfs/ck?region=nac
footprint PTS526SK15SMTR2LFS
pins: 1 COM_1, 2 COM_2, 3 NO_1, 4 NO_2

## RC1206FR-0713KL
designator R?
Resistor; Manufacturer_Name: KEMET; Manufacturer_Part_Number: RC1206FR-0713KL; Datasheet Link: https://www.sos.sk/productdata/35/10/4/35104/RC1206.pdf; Height: 0.65mm; Mouser Part Number: 603-RC1206FR-0713KL; Mouser Price/Stock: https://www.mouser.co.uk/ProductDetail/Yageo/RC1206FR-0713KL?qs=%2FbpERZPLKKvEuZQr9uTFqA%3D%3D
footprint RESC3116X65N
pins: 1, 2

## RK73H2BTTD1R00F
designator R?
Resistor; Manufacturer_Name: KOA Speer; Manufacturer_Part_Number: RK73H2BTTD1R00F; Datasheet Link: http://www.koaspeer.com/catimages/Products/RK73H/RK73H.pdf; Height: 0.7mm; Mouser Part Number: 660-RK73H2BTTD1R00F; Mouser Price/Stock: https://www.mouser.com/Search/Refine.aspx?Keyword=660-RK73H2BTTD1R00F
footprint RESC3216X70N
pins: 1, 2

## RMCF1206FT200R
designator R?
Resistor; Manufacturer_Name: Stackpole Electronics; Manufacturer_Part_Number: RMCF1206FT200R; Datasheet Link: https://cs.seielect.com/catalog/SEI-RMCF_RMCP.pdf; Height: 0.7mm
footprint RESC3216X70N
pins: 1, 2

## RT0805BRD07111KL
designator R?
Resistor; Manufacturer_Name: KEMET; Manufacturer_Part_Number: RT0805BRD07111KL; Datasheet Link: https://componentsearchengine.com/Datasheets/1/RT0805BRD07111KL.pdf; Height: 0.6mm; Mouser Part Number: 603-RT0805BRD07111KL; Mouser Price/Stock: https://www.mouser.co.uk/ProductDetail/Yageo/RT0805BRD07111KL?qs=bQfrgN9vNvxW8OaJGLTFCQ%3D%3D; Arrow Part Number: RT0805BRD07111KL; Arrow Price/Stock: https://www.arrow.com/en/products/rt0805brd07111kl/yageo
footprint RESC2012X60N
pins: 1 (io), 2 (io)

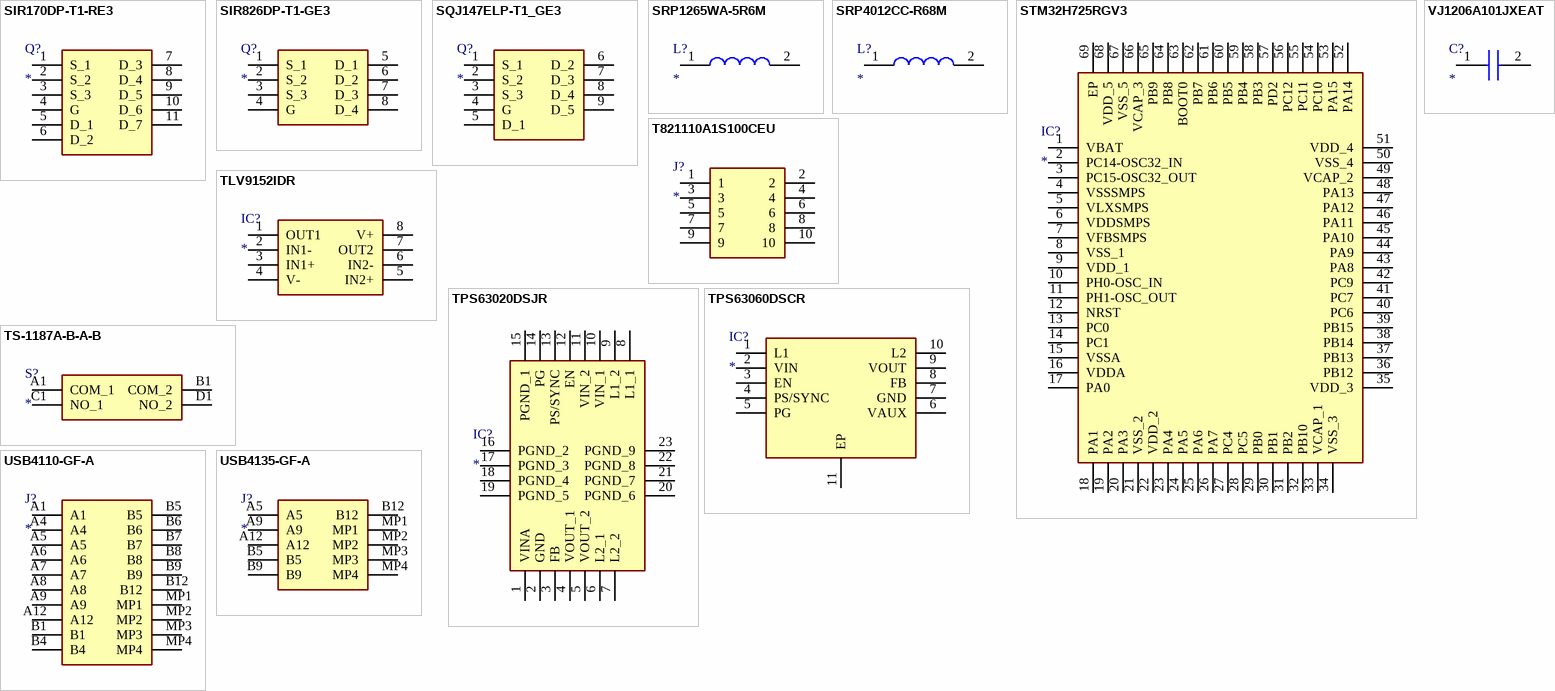
[diagram p2: symbols SIR170DP-T1-RE3 to VJ1206A101JXEAT]

## SIR170DP-T1-RE3
designator Q?
MOSFET (N-Channel); Manufacturer_Name: Vishay; Manufacturer_Part_Number: SIR170DP-T1-RE3; Datasheet Link: https://componentsearchengine.com/Datasheets/1/SIR172ADP-T1-GE3.pdf; Mouser Part Number: 78-SIR170DP-T1-RE3; Mouser Price/Stock: https://www.mouser.co.uk/ProductDetail/Vishay-Semiconductors/SIR170DP-T1-RE3?qs=%252B6g0mu59x7JpyHfvheHFzw%3D%3D
footprint SI7852ADPT1GE3
pins: 1 S_1, 2 S_2, 3 S_3, 4 G, 5 D_1, 6 D_2, 7 D_3, 8 D_4, 9 D_5, 10 D_6, 11 D_7

## SIR826DP-T1-GE3
designator Q?
MOSFET (N-Channel); Manufacturer_Name: Vishay; Manufacturer_Part_Number: SIR826DP-T1-GE3; Datasheet Link: http://www.vishay.com/docs/67196/sir826dp.pdf; Mouser Part Number: 78-SIR826DP-T1-GE3; Mouser Price/Stock: https://www.mouser.co.uk/ProductDetail/Vishay-Semiconductors/SIR826DP-T1-GE3?qs=FfLXECYddQQX8MPZvuXp3g%3D%3D; Arrow Part Number: SIR826DP-T1-GE3; Arrow Price/Stock: https://www.arrow.com/en/products/sir826dp-t1-ge3/vishay
footprint SI7141DPT1GE3
pins: 1 S_1, 2 S_2, 3 S_3, 4 G, 5 D_1, 6 D_2, 7 D_3, 8 D_4

## SQJ147ELP-T1_GE3
designator Q?
MOSFET (N-Channel); Manufacturer_Name: Vishay; Manufacturer_Part_Number: SQJ147ELP-T1_GE3; Datasheet Link: https://www.vishay.com/docs/77857/sqj147elp.pdf; Height: 1.227mm; Mouser Part Number: 78-SQJ147ELP-T1_GE3; Mouser Price/Stock: https://www.mouser.co.uk/ProductDetail/Vishay-Siliconix/SQJ147ELP-T1_GE3?qs=81r%252BiQLm7BRdyhBg3DuaKw%3D%3D; Arrow Part Number: SQJ147ELP-T1_GE3; Arrow Price/Stock: https://www.arrow.com/en/products/sqj147elp-t1-ge3/vishay?region=nac
footprint SQJ147ELPT1_GE3
pins: 1 S_1, 2 S_2, 3 S_3, 4 G, 5 D_1, 6 D_2, 7 D_3, 8 D_4, 9 D_5

## SRP1265WA-5R6M
designator L?
Inductor; Manufacturer_Name: Bourns; Manufacturer_Part_Number: SRP1265WA-5R6M; Datasheet Link: http://www.bourns.com/docs/Product-Datasheets/SRP1265WA.pdf; Height: 6.5mm; Mouser Part Number: 652-SRP1265WA-5R6M; Mouser Price/Stock: https://www.mouser.co.uk/ProductDetail/Bourns/SRP1265WA-5R6M?qs=81r%252BiQLm7BQx3ztxL9cqwg%3D%3D
footprint SRP1265WA5R6M
pins: 1, 2

## SRP4012CC-R68M
designator L?
Inductor; Manufacturer_Name: Bourns; Manufacturer_Part_Number: SRP4012CC-R68M; Datasheet Link: https://www.bourns.com/docs/Product-Datasheets/SRP4012CC.pdf; Height: 1.2mm; Mouser Part Number: 652-SRP4012CC-R68M; Mouser Price/Stock: https://www.mouser.co.uk/ProductDetail/Bourns/SRP4012CC-R68M?qs=1Kr7Jg1SGW88iDwpcvewJA%3D%3D; Arrow Part Number: SRP4012CC-R68M; Arrow Price/Stock: https://www.arrow.com/en/products/srp4012cc-r68m/bourns?region=nac
footprint INDPM4441X120N
pins: 1, 2

## STM32H725RGV3
designator IC?
Integrated Circuit; Manufacturer_Name: STMicroelectronics; Manufacturer_Part_Number: STM32H725RGV3; Datasheet Link: https://th.mouser.com/datasheet/2/389/dm00701017-2042007.pdf; Height: 1mm; Mouser Part Number: 511-STM32H725RGV3; Mouser Price/Stock: https://www.mouser.co.uk/ProductDetail/STMicroelectronics/STM32H725RGV3?qs=zW32dvEIR3sFBR9om7cvTQ%3D%3D
footprint QFN40P800X800X100-69N-D
pins: 1 VBAT, 2 PC14-OSC32_IN, 3 PC15-OSC32_OUT, 4 VSSSMPS, 5 VLXSMPS, 6 VDDSMPS, 7 VFBSMPS, 8 VSS_1, 9 VDD_1, 10 PH0-OSC_IN, 11 PH1-OSC_OUT, 12 NRST, 13 PC0, 14 PC1, 15 VSSA, 16 VDDA, 17 PA0, 18 PA1, 19 PA2, 20 PA3, 21 VSS_2, 22 VDD_2, 23 PA4, 24 PA5, 25 PA6, 26 PA7, 27 PC4, 28 PC5, 29 PB0, 30 PB1, 31 PB2, 32 PB10, 33 VCAP_1, 34 VSS_3, 35 VDD_3, 36 PB12, 37 PB13, 38 PB14, 39 PB15, 40 PC6, 41 PC7, 42 PC9, 43 PA8, 44 PA9, 45 PA10, 46 PA11, 47 PA12, 48 PA13, 49 VCAP_2, 50 VSS_4, 51 VDD_4, 52 PA14, 53 PA15, 54 PC10, 55 PC11, 56 PC12, 57 PD2, 58 PB3, 59 PB4, 60 PB5, 61 PB6, 62 PB7, 63 BOOT0, 64 PB8, 65 PB9, 66 VCAP_3, 67 VSS_5, 68 VDD_5, 69 EP

## T821110A1S100CEU
designator J?
Connector; Manufacturer_Name: Amphenol; Manufacturer_Part_Number: T821110A1S100CEU; Datasheet Link: https://docs.rs-online.com/e09c/0900766b81359cba.pdf; Height: 9.15mm; Mouser Part Number: N/A; Mouser Price/Stock: https://www.mouser.co.uk/ProductDetail/Amphenol/T821110A1S100CEU?qs=3IN%252Br8p6BrNf%2FuKCWm44Bg%3D%3D; Arrow Part Number: T821110A1S100CEU; Arrow Price/Stock: https://www.arrow.com/en/products/t821110a1s100ceu/amphenol-fci?region=europe
footprint SHDR10W64P254X254_2X5_2032X895X915P
pins: 1, 2, 3, 4, 5, 6, 7, 8, 9, 10

## TLV9152IDR
designator IC?
Integrated Circuit; Manufacturer_Name: Texas Instruments; Manufacturer_Part_Number: TLV9152IDR; Datasheet Link: https://www.ti.com/lit/ds/symlink/tlv9152.pdf?ts=1618930568043&ref_url=https%253A%252F%252Fwww.mouser.in%252F; Height: 1.75mm; Mouser Part Number: 595-TLV9152IDR; Mouser Price/Stock: https://www.mouser.co.uk/ProductDetail/Texas-Instruments/TLV9152IDR?qs=xZ%2FP%252Ba9zWqYYS%252ByLEi7keQ%3D%3D; Arrow Part Number: TLV9152IDR; Arrow Price/Stock: https://www.arrow.com/en/products/tlv9152idr/texas-instruments?region=nac
footprint SOIC127P600X175-8N
pins: 1 OUT1, 2 IN1-, 3 IN1+, 4 V-, 5 IN2+, 6 IN2-, 7 OUT2, 8 V+

## TPS63020DSJR
designator IC?
Integrated Circuit; Manufacturer_Name: Texas Instruments; Manufacturer_Part_Number: TPS63020DSJR; Datasheet Link: https://www.ti.com/lit/ds/symlink/tps63020.pdf?HQS=dis-dk-null-digikeymode-dsf-pf-null-wwe&ts=1623612296427; Height: 1mm; Mouser Part Number: 595-TPS63020DSJR; Mouser Price/Stock: https://www.mouser.co.uk/ProductDetail/Texas-Instruments/TPS63020DSJR?qs=C44r%252BX3hXgL3LjjgiOMWew%3D%3D; Arrow Part Number: TPS63020DSJR; Arrow Price/Stock: https://www.arrow.com/en/products/tps63020dsjr/texas-instruments?region=nac
footprint TPS63020DSJR
pins: 1 VINA, 2 GND, 3 FB, 4 VOUT_1, 5 VOUT_2, 6 L2_1, 7 L2_2, 8 L1_1, 9 L1_2, 10 VIN_1, 11 VIN_2, 12 EN, 13 PS/SYNC, 14 PG, 15 PGND_1, 16 PGND_2, 17 PGND_3, 18 PGND_4, 19 PGND_5, 20 PGND_6, 21 PGND_7, 22 PGND_8, 23 PGND_9

## TPS63060DSCR
designator IC?
Integrated Circuit; Manufacturer_Name: Texas Instruments; Manufacturer_Part_Number: TPS63060DSCR; Datasheet Link: http://www.ti.com/lit/gpn/tps63060; Height: 0.8mm; Mouser Part Number: 595-TPS63060DSCR; Mouser Price/Stock: https://www.mouser.co.uk/ProductDetail/Texas-Instruments/TPS63060DSCR?qs=3jfYfyvUSwA68pYl7mRJ2w%3D%3D; Arrow Part Number: TPS63060DSCR; Arrow Price/Stock: https://www.arrow.com/en/products/tps63060dscr/texas-instruments?region=nac
footprint SON50P300X300X80-11N-D
pins: 1 L1, 2 VIN, 3 EN, 4 PS/SYNC, 5 PG, 6 VAUX, 7 GND, 8 FB, 9 VOUT, 10 L2, 11 EP

## TS-1187A-B-A-B
designator S?
Switch; Manufacturer_Name: XKB Connectivity; Manufacturer_Part_Number: TS-1187A-B-A-B; Datasheet Link: http://www.helloxkb.com/public/images/pdf/TS-1187A-X-X-X.pdf; Height: 4.05mm
footprint TS1187ABAB
pins: A1 COM_1, B1 COM_2, C1 NO_1, D1 NO_2

## USB4110-GF-A
designator J?
Connector; Manufacturer_Name: GCT (GLOBAL CONNECTOR TECHNOLOGY); Manufacturer_Part_Number: USB4110-GF-A; Datasheet Link: https://gct.co/files/drawings/usb4110.pdf; Height: 3.26mm; Mouser Part Number: 640-USB4110-GF-A; Mouser Price/Stock: https://www.mouser.co.uk/ProductDetail/GCT/USB4110-GF-A?qs=KUoIvG%2F9IlYiZvIXQjyJeA%3D%3D
footprint USB4110GFA
pins: A1, A4, A5, A6, A7, A8, A9, A12, B1, B4, B5, B6, B7, B8, B9, B12, MP1, MP2, MP3, MP4

## USB4135-GF-A
designator J?
Connector; Manufacturer_Name: GCT (GLOBAL CONNECTOR TECHNOLOGY); Manufacturer_Part_Number: USB4135-GF-A; Datasheet Link: https://ar.mouser.com/datasheet/2/837/usb4135-2930399.pdf; Height: 3.5mm; Mouser Part Number: 640-USB4135-GF-A; Mouser Price/Stock: https://www.mouser.co.uk/ProductDetail/GCT/USB4135-GF-A?qs=Li%252BoUPsLEnt6HRo6RUvaXA%3D%3D
footprint USB4135GFA
pins: A5, A9, A12, B5, B9, B12, MP1, MP2, MP3, MP4

## VJ1206A101JXEAT
designator C?
Capacitor; Manufacturer_Name: Vishay; Manufacturer_Part_Number: VJ1206A101JXEAT; Datasheet Link: http://www.vishay.com/docs/45200/vjhirelseries.pdf; Height: 1.7mm; Mouser Part Number: 77-VJ1206A101JXEAT; Mouser Price/Stock: https://www.mouser.co.uk/ProductDetail/Vishay-Vitramon/VJ1206A101JXEAT?qs=RFK7ThnmtPvk1pY6DbPviw%3D%3D; Arrow Part Number: VJ1206A101JXEAT; Arrow Price/Stock: https://www.arrow.com/en/products/vj1206a101jxeat/vishay
footprint CAPC3216X170N
pins: 1, 2